# EAGLE library part 750341566 (library Midcom Inc - EAGLE Lib V2-0)
Package Style: EE25/13/7 Mounting: THT Pins: 10 pins Bobbin: 070-5987 Best pinouts for production vary per application. Please contact Wurth Electronics Midcom, Inc. for assistance with your custom design. Website: Wurth Electronics Midcom <http://www.we-online.com/midcom> Contact us Wurth Electronics Midcom, Inc. 121 Airport Dr. Watertown, SD 57201 Phone: (605) 886-4385 Fax: (605) 886-4486 E-Mail: midcom@we-online.com
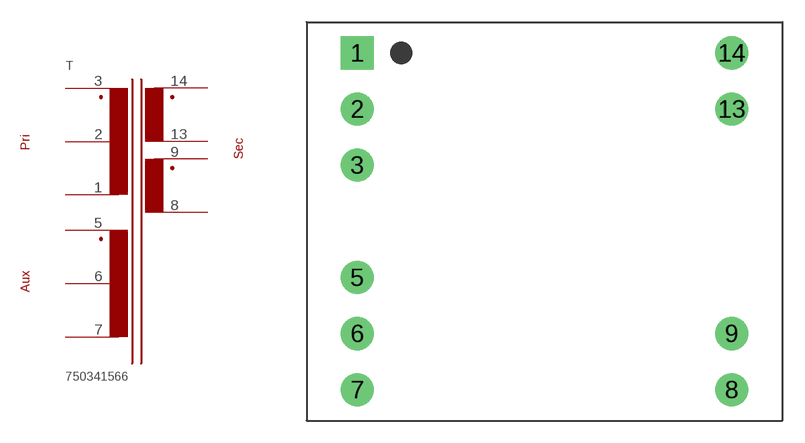
[diagram p128: symbol with the pads of EE25/13/7_THT_H_10PIN_(5987); footprint EE25/13/7_THT_H_10PIN_(5987)]

Designator prefix T

## 750341566  [EE25/13/7_THT_H_10PIN_(5987)]
1  1  pas
2  2  pas
3  3  pas
5  5  pas
6  6  pas
7  7  pas
8  8  pas
9  9  pas
13  13  pas
14  14  pas

## Footprint EE25/13/7_THT_H_10PIN_(5987) (pad centres in mm)
Package Style: EE25/13/7 Mounting: THT Pins: 14 Bobbin: 070-5987
drill 1.499 square: 1 -12.7,11.43
drill 1.499: 2 -12.7,7.62; 3 -12.7,3.81; 5 -12.7,-3.81; 6 -12.7,-7.62; 7 -12.7,-11.43; 8 12.7,-11.43; 9 12.7,-7.62; 13 12.7,7.62; 14 12.7,11.43